# Altium footprint library RES_1Mohm_805pkg.PcbLib: 3 footprints
Each footprint in its own frame and in the unit in brackets; x right, y up, seen from the top. Pads: shape width x height; smd on the part's side, far side on the other; paste and mask are expansions set on the pad; w line width, h text height; cw(c..) or ccw(c..) is an arc to the next point about the centre after c.
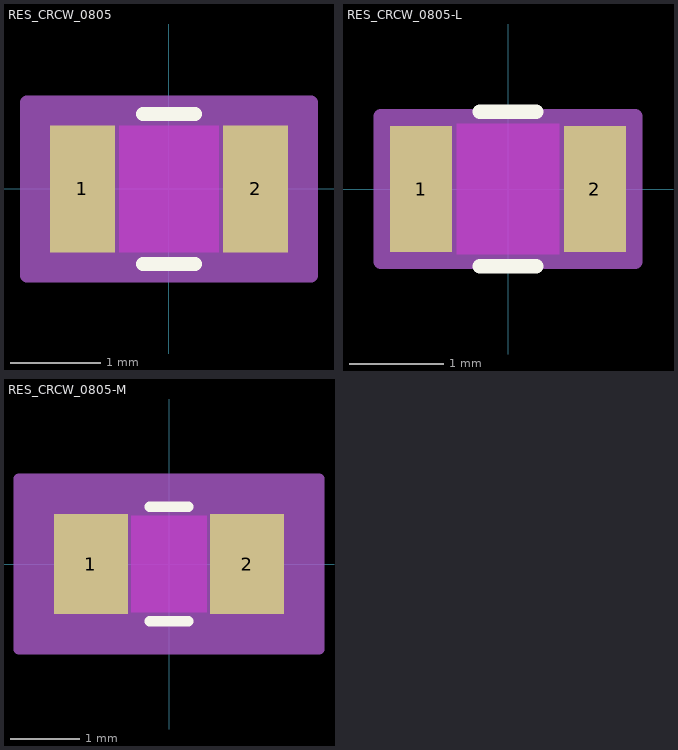
[diagram p0: the footprints below, top view; thin cyan lines are the x and y axes]

## RES_CRCW_0805 [mil]
pads (2):
  rect 28x55 smd paste-27.5 mask-27.5: 1(-37.5,0) 2(37.5,0)
Top Layer keep-out:
  region: -21.5,-25.5 -21.5,25.5 21.5,25.5 21.5,-25.5
Top Overlay:
  lines w6: -11.39,-32.5 11.39,-32.5 ; -11.39,32.5 11.39,32.5
Keep-Out Layer:
  region: -21.5,-27.5 -21.5,27.5 21.5,27.5 21.5,-27.5
Mechanical 13:
  lines w1: -43.5,-27.5 -43.5,27.5 ; -43.5,-27.5 -23.5,-27.5 -23.5,27.5 -43.5,27.5 ; -43.5,-27.5 43.5,-27.5 ; -43.5,-27.5 -43.5,27.5 ; -43.5,27.5 43.5,27.5 ; 43.5,-27.5 23.5,-27.5 23.5,27.5 43.5,27.5 ; 43.5,-27.5 43.5,27.5 ; 43.5,-27.5 43.5,27.5
Mechanical 15:
  region: 61.5,-37.5 -61.5,-37.5 -61.5,37.5 61.5,37.5
  lines w6: -61.5,-37.5 -61.5,37.5 61.5,37.5 61.5,-37.5 -61.5,-37.5
3D body "RES_CRCW_0805.step": height 20, standoff 0, extent -43.5,-27.48 43.5,27.48

## RES_CRCW_0805-L [mil]
pads (2):
  rect 26x53 smd paste+0 mask+0: 1(-36.5,0) 2(36.5,0)
Top Layer keep-out:
  region: -21.5,-25.5 -21.5,25.5 21.5,25.5 21.5,-25.5
Top Overlay:
  lines w6: -11.85,-32.5 11.85,-32.5 ; -11.85,32.5 11.85,32.5
Keep-Out Layer:
  region: -21.5,-27.5 -21.5,27.5 21.5,27.5 21.5,-27.5
Mechanical 13:
  lines w1: -43.5,-27.5 -43.5,27.5 ; -43.5,-27.5 -23.5,-27.5 -23.5,27.5 -43.5,27.5 ; -43.5,-27.5 43.5,-27.5 ; -43.5,-27.5 -43.5,27.5 ; -43.5,27.5 43.5,27.5 ; 43.5,-27.5 23.5,-27.5 23.5,27.5 43.5,27.5 ; 43.5,-27.5 43.5,27.5 ; 43.5,-27.5 43.5,27.5
Mechanical 15:
  region: 53.5,-30.5 -53.5,-30.5 -53.5,30.5 53.5,30.5
  lines w6: -53.5,-30.5 -53.5,30.5 53.5,30.5 53.5,-30.5 -53.5,-30.5
3D body "RES_CRCW_0805.step": height 20, standoff 0, extent -43.5,-27.48 43.5,27.48

## RES_CRCW_0805-M [mil]
pads (2):
  rect 42x57 smd paste+0 mask+0: 1(-44.5,0) 2(44.5,0)
Top Layer keep-out:
  region: -21.5,-25.5 -21.5,25.5 21.5,25.5 21.5,-25.5
Top Overlay:
  lines w6: -11.03,-32.5 11.03,-32.5 ; -11.03,32.5 11.03,32.5
Keep-Out Layer:
  region: -21.5,-27.5 -21.5,27.5 21.5,27.5 21.5,-27.5
Mechanical 13:
  lines w1: -43.5,-27.5 -43.5,27.5 ; -43.5,-27.5 -23.5,-27.5 -23.5,27.5 -43.5,27.5 ; -43.5,-27.5 43.5,-27.5 ; -43.5,-27.5 -43.5,27.5 ; -43.5,27.5 43.5,27.5 ; 43.5,-27.5 23.5,-27.5 23.5,27.5 43.5,27.5 ; 43.5,-27.5 43.5,27.5 ; 43.5,-27.5 43.5,27.5
Mechanical 15:
  region: 85.5,-48.5 -85.5,-48.5 -85.5,48.5 85.5,48.5
  lines w6: -85.5,-48.5 -85.5,48.5 85.5,48.5 85.5,-48.5 -85.5,-48.5
3D body "RES_CRCW_0805.step": height 20, standoff 0, extent -43.5,-27.48 43.5,27.48